# Altium footprint library Components - 06.08.25 - 20.05.PcbLib: 1 footprints
Each footprint in its own frame and in the unit in brackets; x right, y up, seen from the top. Pads: shape width x height; smd on the part's side, far side on the other; paste and mask are expansions set on the pad; w line width, h text height; cw(c..) or ccw(c..) is an arc to the next point about the centre after c.
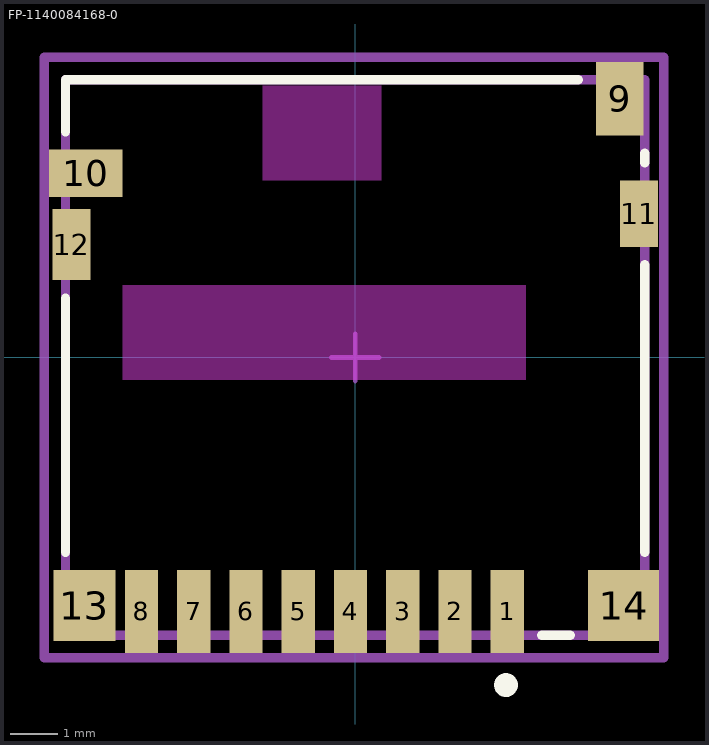
[diagram p0: the footprint, top view; thin cyan lines are the x and y axes]

## FP-1140084168-0 [mm]
pads (14):
  rect 0.7x1.75 smd paste+0 mask+0: 1(3.2,-5.35) 2(2.1,-5.35) 3(1,-5.35) 4(-0.1,-5.35) 5(-1.2,-5.35) 6(-2.3,-5.35) 7(-3.4,-5.35) 8(-4.5,-5.35)
  rect 1x1.55 smd paste+0 mask+0: 9(5.575,5.45)
  rect 1.55x1 smd paste+0 mask+0: 10(-5.675,3.875)
  rect 0.8x1.4 smd paste+0 mask+0: 11(5.975,3.025)
  rect 0.8x1.5 smd paste+0 mask+0: 12(-5.975,2.375)
  rect 1.3x1.5 smd paste+0 mask+0: 13(-5.7,-5.225)
  rect 1.5x1.5 smd paste+0 mask+0: 14(5.65,-5.225)
Top Overlay:
  circle w0.25: c3.175,-6.9 r0.125
  lines w0.2: -6.1,-4.1 -6.1,1.25 ; -6.1,4.75 -6.1,5.85 4.7,5.85 ; 3.925,-5.85 4.525,-5.85 ; 6.1,-4.1 6.1,1.95 ; 6.1,4.1 6.1,4.3
Keep-Out Layer:
  rectangle: -1.95,3.725 0.55,5.725
  rectangle: -4.9,-0.475 3.6,1.525
Top Assembly:
  lines w0.2: -6.55,-6.325 -6.55,6.325 6.5,6.325 6.5,-6.325 -6.55,-6.325
  text ".Designator" at -0.025,0.188 h1
Top 3D Body:
  lines w0.2: -6.1,-5.85 -6.1,5.85 6.1,5.85 6.1,-5.85 -6.1,-5.85
Top Courtyard:
  lines w0.2: -6.55,-6.325 -6.55,6.325 6.5,6.325 6.5,-6.325 -6.55,-6.325
Top Component Center:
  lines w0.1: -0.5,0 0.5,0 ; 0,-0.5 0,0.5
3D body "Conn_Amphenol_1140084168_eec.STEP": height 0.25, standoff 0, extent -6.55,-6.325 6.5,6.325